# EAGLE library part SN75240 (library ads4)
Texas Instruments USB TVS
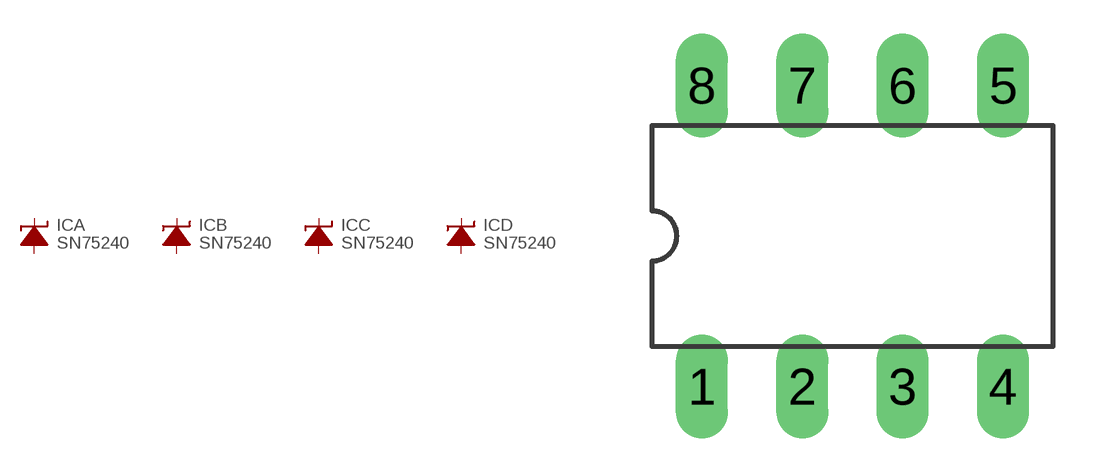
[diagram p23: symbol with the pads of DIL08; footprint DIL08]

Designator prefix IC; gates A=ZENERVERT B=ZENERVERT C=ZENERVERT D=ZENERVERT

## SN75240P  [DIL08]
1  C:A  pas
2  C:C  pas
3  D:A  pas
4  D:C  pas
5  B:A  pas
6  B:C  pas
7  A:A  pas
8  A:C  pas

## Footprint DIL08 (pad centres in mm)
8-pin Dual-In Line (copied from 74xx-us.lbr)
drill 0.813 long: 1 -3.81,-3.81; 2 -1.27,-3.81; 3 1.27,-3.81; 4 3.81,-3.81; 5 3.81,3.81; 6 1.27,3.81; 7 -1.27,3.81; 8 -3.81,3.81